# Altium integrated library Analog Devices Data Converters Digital-to-Analog Converters.IntLib: 2231 symbols (part 127 of 181)
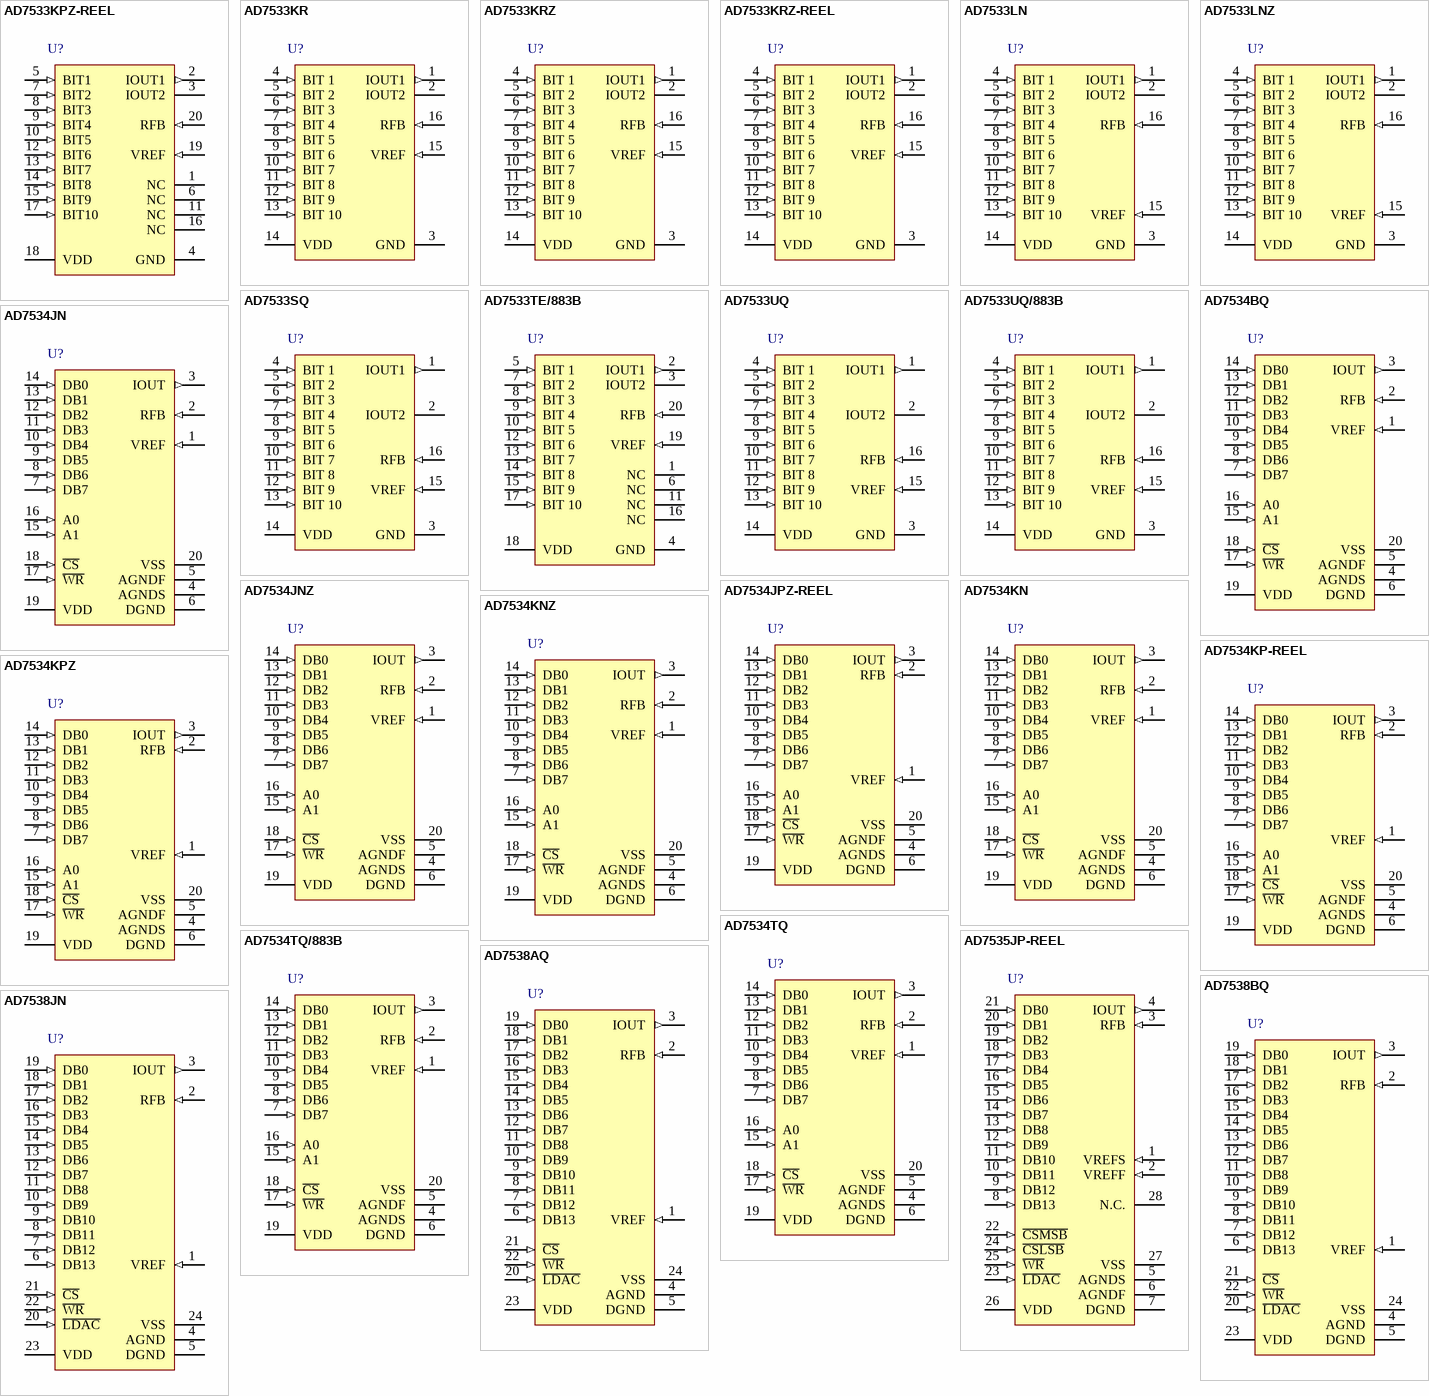
[diagram p240: symbols AD7533KPZ-REEL to AD7538JN]

## AD7534JPZ-REEL
designator U?
Single 14-Bit uP-Compatible Digital-to-Analog Converter, 0 to +70 degC, P-20A, Pb-Free, Reel; Generic Part Number: AD7534; Manufacturer: Analog Devices; PartNumber: AD7534JPZ-REEL; # DAC Outputs: 1; Max V+: 15.75V; Op Pwr Diss: 45mW; Resolution (Bits): 14; Settling Time: 1.5µs; Single Supply: No; DatasheetVersion: Rev.A; PackageVersion: Nov-2002; PackageReference: P-20A; PackageDescription: 20-Lead Plastic Leaded Chip Carrier [PLCC]; Supplier 1: Digi-Key; Supplier Part Number 1: AD7534JPZ-REEL-ND; Supplier 2: Mouser; Supplier Part Number 2: 584-AD7534JPZ-R; Packing: Reel; RoHS: Y; Mounting Technology: Surface Mount; Code_JEDEC: MO-047-AA; ComponentLink1Description: Manufacturer URL; ComponentLink1URL: http://www.analog.com/en/index.html; ComponentLink2Description: Datasheet; ComponentLink2URL: http://www.analog.com/static/imported-files/data_sheets/AD7534.pdf; ComponentLink3Description: Package Specification; ComponentLink3URL: http://www.analog.com/static/imported-files/packages/3121431516544404277643669223804694P20A.pdf; ComponentLink4Description: Product URL; ComponentLink4URL: http://www.analog.com/en/digital-to-analog-converters/da-converters/ad7534/products/product.html
footprint P-20A_N (Leaded Chip Carrier, 20-Leads, Body 9x9mm, Pitch 1.27mm, IPC Medium Density)
footprint P-20A_L (Leaded Chip Carrier, 20-Leads, Body 9x9mm, Pitch 1.27mm, IPC High Density)
footprint P-20A_M (Leaded Chip Carrier, 20-Leads, Body 9x9mm, Pitch 1.27mm, IPC Low Density)
pins: 1 VREF (in) "Reference Input Voltage.", 2 RFB (in) "Feedback resistor.Used to close the loop around an external op-amp.", 3 IOUT (out) "Current Output Terminal.", 4 AGNDS (power) "Analog ground sense line.Reference point for external circuitry.This pin should carry minimal current.", 5 AGNDF (power) "Analog ground force line;carries current from internal analog ground connections.AGNDF and AGNDS are tied together internally.", 6 DGND (power) "Digital Ground.", 7 DB7 (in) "Data Bit 7.", 8 DB6 (in) "Data Bit 6.", 9 DB5 (in) "Data Bit 5 or Data Bit 13 (DAC MSB).", 10 DB4 (in) "Data Bit 4 or Data Bit 12.", 11 DB3 (in) "Data Bit 3 or Data Bit 11.", 12 DB2 (in) "Data Bit 2 or Data Bit 10.", 13 DB1 (in) "Data Bit 1 or Data Bit 9.", 14 DB0 (in) "Data Bit 0 or Data Bit 8.", 15 A1 (in) "Address line 1.", 16 A0 (in) "Address line 0.", 17 ~{WR} (in) "Write input.Active low.", 18 ~{CS} (in) "Chip Select Input.Active low.", 19 VDD (power) "+ 12V to +15V supply input.", 20 VSS (power) "Bias pin for High Temperature Low Leakage configuration.To implement low leakage system,the pin should be at a negative voltage.See Figures 4,5 or 6 for recommended circuitry."

## AD7534KN
designator U?
Single 14-Bit uP-Compatible Digital-to-Analog Converter, 0 to +70 degC, N-20, Tube; Generic Part Number: AD7534; Manufacturer: Analog Devices; PartNumber: AD7534KN; # DAC Outputs: 1; Max V+: 15.75V; Op Pwr Diss: 45mW; Resolution (Bits): 14; Settling Time: 1.5µs; Single Supply: No; DatasheetVersion: Rev.A; PackageVersion: 070706-A; PackageReference: N-20; PackageDescription: 20-Lead Plastic Dual In-Line Package [PDIP] Narrow Body; Supplier 1: Digi-Key; Supplier Part Number 1: AD7534KN-ND; Supplier 2: Mouser; Supplier Part Number 2: 584-AD7534KN; Packing: Tube; RoHS: N; Mounting Technology: Through Hole; Code_JEDEC: MS-001; ComponentLink1Description: Manufacturer URL; ComponentLink1URL: http://www.analog.com/en/index.html; ComponentLink2Description: Datasheet; ComponentLink2URL: http://www.analog.com/static/imported-files/data_sheets/AD7534.pdf; ComponentLink3Description: Package Specification; ComponentLink3URL: http://www.analog.com/static/imported-files/packages/50601349676519N_20.pdf; ComponentLink4Description: Product URL; ComponentLink4URL: http://www.analog.com/en/digital-to-analog-converters/da-converters/ad7534/products/product.html
footprint N-20 (DIP, 20-Leads, Row Spacing 7.62mm, Pitch 2.54mm, Body 25.9x6.6mm)
pins: 1 VREF (in) "Reference Input Voltage", 2 RFB (in) "Feedback resistor. Used to close the loop around an external op-amp.", 3 IOUT (out) "Current Output Terminal", 4 AGNDS (power) "Analog ground sense line. Reference point for external circuitry. This pin should carry minimal current.", 5 AGNDF (power) "Analog ground force line; carries current from internal analog ground connections. AGNDF and AGNDS are tied together internally.", 6 DGND (power) "Digital Ground.", 7 DB7 (in) "Data Bit 7", 8 DB6 (in) "Data Bit 6", 9 DB5 (in) "Data Bit 5 or  Data Bit 13(DAC MSB)", 10 DB4 (in) "Data Bit 4 or  Data Bit 12", 11 DB3 (in) "Data Bit 3 or  Data Bit 11", 12 DB2 (in) "Data Bit 2 or  Data Bit 10", 13 DB1 (in) "Data Bit 1 or  Data Bit 9", 14 DB0 (in) "Data Bit 0 or  Data Bit 8", 15 A1 (in) "Address line 1", 16 A0 (in) "Address line 0", 17 ~{WR} (in) "Write input. Active low.", 18 ~{CS} (in) "Chip Select Input. Active low.", 19 VDD (power) "+12 V to +15 V supply input.", 20 VSS (power) "Bias pin for High Temperature Low Leakage configuration. To implement low leakage system, the pin should be at a negative voltage. See Figures 4,5 or 6 for recommended circuitry."

## AD7534KNZ
designator U?
Single 14-Bit uP-Compatible Digital-to-Analog Converter, 0 to +70 degC, N-20, Pb-Free, Tube; Generic Part Number: AD7534; Manufacturer: Analog Devices; PartNumber: AD7534KNZ; # DAC Outputs: 1; Max V+: 15.75V; Op Pwr Diss: 45mW; Resolution (Bits): 14; Settling Time: 1.5µs; Single Supply: No; DatasheetVersion: Rev.A; PackageVersion: 070706-A; PackageReference: N-20; PackageDescription: 20-Lead Plastic Dual In-Line Package [PDIP] Narrow Body; Supplier 1: Digi-Key; Supplier Part Number 1: AD7534KNZ-ND; Supplier 2: Newark; Supplier Part Number 2: 59K4984; Supplier 3: Mouser; Supplier Part Number 3: 584-AD7534KNZ; Packing: Tube; RoHS: Y; Mounting Technology: Through Hole; Code_JEDEC: MS-001; ComponentLink1Description: Manufacturer URL; ComponentLink1URL: http://www.analog.com/en/index.html; ComponentLink2Description: Datasheet; ComponentLink2URL: http://www.analog.com/static/imported-files/data_sheets/AD7534.pdf; ComponentLink3Description: Package Specification; ComponentLink3URL: http://www.analog.com/static/imported-files/packages/50601349676519N_20.pdf; ComponentLink4Description: Product URL; ComponentLink4URL: http://www.analog.com/en/digital-to-analog-converters/da-converters/ad7534/products/product.html
footprint N-20 (DIP, 20-Leads, Row Spacing 7.62mm, Pitch 2.54mm, Body 25.9x6.6mm)
pins: 1 VREF (in) "Reference Input Voltage", 2 RFB (in) "Feedback resistor. Used to close the loop around an external op-amp.", 3 IOUT (out) "Current Output Terminal", 4 AGNDS (power) "Analog ground sense line. Reference point for external circuitry. This pin should carry minimal current.", 5 AGNDF (power) "Analog ground force line; carries current from internal analog ground connections. AGNDF and AGNDS are tied together internally.", 6 DGND (power) "Digital Ground.", 7 DB7 (in) "Data Bit 7", 8 DB6 (in) "Data Bit 6", 9 DB5 (in) "Data Bit 5 or  Data Bit 13(DAC MSB)", 10 DB4 (in) "Data Bit 4 or  Data Bit 12", 11 DB3 (in) "Data Bit 3 or  Data Bit 11", 12 DB2 (in) "Data Bit 2 or  Data Bit 10", 13 DB1 (in) "Data Bit 1 or  Data Bit 9", 14 DB0 (in) "Data Bit 0 or  Data Bit 8", 15 A1 (in) "Address line 1", 16 A0 (in) "Address line 0", 17 ~{WR} (in) "Write input. Active low.", 18 ~{CS} (in) "Chip Select Input. Active low.", 19 VDD (power) "+12 V to +15 V supply input.", 20 VSS (power) "Bias pin for High Temperature Low Leakage configuration. To implement low leakage system, the pin should be at a negative voltage. See Figures 4,5 or 6 for recommended circuitry."

## AD7534KP-REEL
designator U?
Single 14-Bit uP-Compatible Digital-to-Analog Converter, 0 to +70 degC, P-20A, Reel; Generic Part Number: AD7534; Manufacturer: Analog Devices; PartNumber: AD7534KP-REEL; # DAC Outputs: 1; Max V+: 15.75V; Op Pwr Diss: 45mW; Resolution (Bits): 14; Settling Time: 1.5µs; Single Supply: No; DatasheetVersion: Rev.A; PackageVersion: Nov-2002; PackageReference: P-20A; PackageDescription: 20-Lead Plastic Leaded Chip Carrier [PLCC]; Supplier 1: Digi-Key; Supplier Part Number 1: AD7534KP-REELTR-ND; Supplier 2: Digi-Key; Supplier Part Number 2: AD7534KP-REELCT-ND; Supplier 3: Digi-Key; Supplier Part Number 3: AD7534KP-REELDKR-ND; Supplier 4: Mouser; Supplier Part Number 4: 584-AD7534KP-R; Packing: Reel; RoHS: N; Mounting Technology: Surface Mount; Code_JEDEC: MO-047-AA; ComponentLink1Description: Manufacturer URL; ComponentLink1URL: http://www.analog.com/en/index.html; ComponentLink2Description: Datasheet; ComponentLink2URL: http://www.analog.com/static/imported-files/data_sheets/AD7534.pdf; ComponentLink3Description: Package Specification; ComponentLink3URL: http://www.analog.com/static/imported-files/packages/3121431516544404277643669223804694P20A.pdf; ComponentLink4Description: Product URL; ComponentLink4URL: http://www.analog.com/en/digital-to-analog-converters/da-converters/ad7534/products/product.html
footprint P-20A_N (Leaded Chip Carrier, 20-Leads, Body 9x9mm, Pitch 1.27mm, IPC Medium Density)
footprint P-20A_L (Leaded Chip Carrier, 20-Leads, Body 9x9mm, Pitch 1.27mm, IPC High Density)
footprint P-20A_M (Leaded Chip Carrier, 20-Leads, Body 9x9mm, Pitch 1.27mm, IPC Low Density)
pins: 1 VREF (in) "Reference Input Voltage.", 2 RFB (in) "Feedback resistor.Used to close the loop around an external op-amp.", 3 IOUT (out) "Current Output Terminal.", 4 AGNDS (power) "Analog ground sense line.Reference point for external circuitry.This pin should carry minimal current.", 5 AGNDF (power) "Analog ground force line;carries current from internal analog ground connections.AGNDF and AGNDS are tied together internally.", 6 DGND (power) "Digital Ground.", 7 DB7 (in) "Data Bit 7.", 8 DB6 (in) "Data Bit 6.", 9 DB5 (in) "Data Bit 5 or Data Bit 13 (DAC MSB).", 10 DB4 (in) "Data Bit 4 or Data Bit 12.", 11 DB3 (in) "Data Bit 3 or Data Bit 11.", 12 DB2 (in) "Data Bit 2 or Data Bit 10.", 13 DB1 (in) "Data Bit 1 or Data Bit 9.", 14 DB0 (in) "Data Bit 0 or Data Bit 8.", 15 A1 (in) "Address line 1.", 16 A0 (in) "Address line 0.", 17 ~{WR} (in) "Write input.Active low.", 18 ~{CS} (in) "Chip Select Input.Active low.", 19 VDD (power) "+ 12V to +15V supply input.", 20 VSS (power) "Bias pin for High Temperature Low Leakage configuration.To implement low leakage system,the pin should be at a negative voltage.See Figures 4,5 or 6 for recommended circuitry."

## AD7534KPZ
designator U?
Single 14-Bit uP-Compatible Digital-to-Analog Converter, 0 to +70 degC, P-20A, Pb-Free, Tube; Generic Part Number: AD7534; Manufacturer: Analog Devices; PartNumber: AD7534KPZ; # DAC Outputs: 1; Max V+: 15.75V; Op Pwr Diss: 45mW; Resolution (Bits): 14; Settling Time: 1.5µs; Single Supply: No; DatasheetVersion: Rev.A; PackageVersion: Nov-2002; PackageReference: P-20A; PackageDescription: 20-Lead Plastic Leaded Chip Carrier [PLCC]; Supplier 1: Digi-Key; Supplier Part Number 1: AD7534KPZ-ND; Supplier 2: Mouser; Supplier Part Number 2: 584-AD7534KPZ; Packing: Tube; RoHS: Y; Mounting Technology: Surface Mount; Code_JEDEC: MO-047-AA; ComponentLink1Description: Manufacturer URL; ComponentLink1URL: http://www.analog.com/en/index.html; ComponentLink2Description: Datasheet; ComponentLink2URL: http://www.analog.com/static/imported-files/data_sheets/AD7534.pdf; ComponentLink3Description: Package Specification; ComponentLink3URL: http://www.analog.com/static/imported-files/packages/3121431516544404277643669223804694P20A.pdf; ComponentLink4Description: Product URL; ComponentLink4URL: http://www.analog.com/en/digital-to-analog-converters/da-converters/ad7534/products/product.html
footprint P-20A_N (Leaded Chip Carrier, 20-Leads, Body 9x9mm, Pitch 1.27mm, IPC Medium Density)
footprint P-20A_L (Leaded Chip Carrier, 20-Leads, Body 9x9mm, Pitch 1.27mm, IPC High Density)
footprint P-20A_M (Leaded Chip Carrier, 20-Leads, Body 9x9mm, Pitch 1.27mm, IPC Low Density)
pins: 1 VREF (in) "Reference Input Voltage.", 2 RFB (in) "Feedback resistor.Used to close the loop around an external op-amp.", 3 IOUT (out) "Current Output Terminal.", 4 AGNDS (power) "Analog ground sense line.Reference point for external circuitry.This pin should carry minimal current.", 5 AGNDF (power) "Analog ground force line;carries current from internal analog ground connections.AGNDF and AGNDS are tied together internally.", 6 DGND (power) "Digital Ground.", 7 DB7 (in) "Data Bit 7.", 8 DB6 (in) "Data Bit 6.", 9 DB5 (in) "Data Bit 5 or Data Bit 13 (DAC MSB).", 10 DB4 (in) "Data Bit 4 or Data Bit 12.", 11 DB3 (in) "Data Bit 3 or Data Bit 11.", 12 DB2 (in) "Data Bit 2 or Data Bit 10.", 13 DB1 (in) "Data Bit 1 or Data Bit 9.", 14 DB0 (in) "Data Bit 0 or Data Bit 8.", 15 A1 (in) "Address line 1.", 16 A0 (in) "Address line 0.", 17 ~{WR} (in) "Write input.Active low.", 18 ~{CS} (in) "Chip Select Input.Active low.", 19 VDD (power) "+ 12V to +15V supply input.", 20 VSS (power) "Bias pin for High Temperature Low Leakage configuration.To implement low leakage system,the pin should be at a negative voltage.See Figures 4,5 or 6 for recommended circuitry."

## AD7534TQ
designator U?
Single 14-Bit uP-Compatible Digital-to-Analog Converter, -55 to +125 degC, Q-20, Tube; Generic Part Number: AD7534; Manufacturer: Analog Devices; PartNumber: AD7534TQ; # DAC Outputs: 1; Max V+: 15.75V; Op Pwr Diss: 45mW; Resolution (Bits): 14; Settling Time: 1.5µs; Single Supply: No; DatasheetVersion: Rev.A; PackageVersion: Dec-2004; PackageReference: Q-20; PackageDescription: 20-Lead Ceramic Dual In-Line Package [CERDIP]; Supplier 1: Digi-Key; Supplier Part Number 1: AD7534TQ-ND; Supplier 2: Mouser; Supplier Part Number 2: 584-AD7534TQ; Packing: Tube; RoHS: N; Mounting Technology: Through Hole; ComponentLink1Description: Manufacturer URL; ComponentLink1URL: http://www.analog.com/en/index.html; ComponentLink2Description: Datasheet; ComponentLink2URL: http://www.analog.com/static/imported-files/data_sheets/AD7534.pdf; ComponentLink3Description: Package Specification; ComponentLink3URL: http://www.analog.com/static/imported-files/packages/50516416473314Q_20.pdf; ComponentLink4Description: Product URL; ComponentLink4URL: http://www.analog.com/en/digital-to-analog-converters/da-converters/ad7534/products/product.html
footprint Q-20 (DIP, 20-Leads, Row Spacing 7.62mm, Pitch 2.54mm, Body 25.9x6.7mm)
pins: 1 VREF (in) "Reference Input Voltage.", 2 RFB (in) "Feedback resistor.Used to close the loop around an external op-amp.", 3 IOUT (out) "Current Output Terminal.", 4 AGNDS (power) "Analog ground sense line;Reference point for external circuitry.This pin should  carry minimal current.", 5 AGNDF (power) "Analog ground force line;carries current from internal analog ground connections.AGNDF and AGNDS are tied together internally.", 6 DGND (power) "Digital Ground.", 7 DB7 (in) "Data Bit 7.", 8 DB6 (in) "Data Bit 6.", 9 DB5 (in) "Data Bit 5 or Data Bit 13 (DAC MSB).", 10 DB4 (in) "Data Bit 4 or Data Bit 12.", 11 DB3 (in) "Data Bit 3 or Data Bit 11.", 12 DB2 (in) "Data Bit 2 or Data Bit 10.", 13 DB1 (in) "Data Bit 1 or Data Bit 9.", 14 DB0 (in) "Data Bit 0 or Data Bit 8.", 15 A1 (in) "Address line 1.", 16 A0 (in) "Address line 0.", 17 ~{WR} (in) "Write input.Active low.", 18 ~{CS} (in) "Chip Select Input.Active low.", 19 VDD (power) "+12 Vto +15 V supply input.", 20 VSS (power) "Bias pin for High Temperature Low Leakage configuration.To implement low leakage system,the pin should be at a negative voltage.See Figures4,5 or 6 for recommended circuitry."

## AD7534TQ/883B
designator U?
Single 14-Bit uP-Compatible Digital-to-Analog Converter, -55 to +125 degC, Q-20, Tube; Generic Part Number: AD7534; Manufacturer: Analog Devices; PartNumber: AD7534TQ/883B; # DAC Outputs: 1; Max V+: 15.75V; Op Pwr Diss: 45mW; Resolution (Bits): 14; Settling Time: 1.5µs; Single Supply: No; DatasheetVersion: Rev.A; PackageVersion: Dec-2004; PackageReference: Q-20; PackageDescription: 20-Lead Ceramic Dual In-Line Package [CERDIP]; Supplier 1: Mouser; Supplier Part Number 1: 584-AD7534TQ883B; Packing: Tube; RoHS: N; Mounting Technology: Through Hole; ComponentLink1Description: Manufacturer URL; ComponentLink1URL: http://www.analog.com/en/index.html; ComponentLink2Description: Datasheet; ComponentLink2URL: http://www.analog.com/static/imported-files/data_sheets/AD7534.pdf; ComponentLink3Description: Package Specification; ComponentLink3URL: http://www.analog.com/static/imported-files/packages/50516416473314Q_20.pdf; ComponentLink4Description: Product URL; ComponentLink4URL: http://www.analog.com/en/digital-to-analog-converters/da-converters/ad7534/products/product.html
footprint Q-20 (DIP, 20-Leads, Row Spacing 7.62mm, Pitch 2.54mm, Body 25.9x6.7mm)
pins: 1 VREF (in) "Reference Input Voltage.", 2 RFB (in) "Feedback resistor.Used to close the loop around an external op-amp.", 3 IOUT (out) "Current Output Terminal.", 4 AGNDS (power) "Analog ground sense line;Reference point for external circuitry.This pin should  carry minimal current.", 5 AGNDF (power) "Analog ground force line;carries current from internal analog ground connections.AGNDF and AGNDS are tied together internally.", 6 DGND (power) "Digital Ground.", 7 DB7 (in) "Data Bit 7.", 8 DB6 (in) "Data Bit 6.", 9 DB5 (in) "Data Bit 5 or Data Bit 13 (DAC MSB).", 10 DB4 (in) "Data Bit 4 or Data Bit 12.", 11 DB3 (in) "Data Bit 3 or Data Bit 11.", 12 DB2 (in) "Data Bit 2 or Data Bit 10.", 13 DB1 (in) "Data Bit 1 or Data Bit 9.", 14 DB0 (in) "Data Bit 0 or Data Bit 8.", 15 A1 (in) "Address line 1.", 16 A0 (in) "Address line 0.", 17 ~{WR} (in) "Write input.Active low.", 18 ~{CS} (in) "Chip Select Input.Active low.", 19 VDD (power) "+12 Vto +15 V supply input.", 20 VSS (power) "Bias pin for High Temperature Low Leakage configuration.To implement low leakage system,the pin should be at a negative voltage.See Figures4,5 or 6 for recommended circuitry."

## AD7535JP-REEL
designator U?
Single 14-Bit uP-Compatible Digital-to-Analog Converter, 0 to +70 degC, P-28, Reel; Generic Part Number: AD7535; Manufacturer: Analog Devices; PartNumber: AD7535JP-REEL; # DAC Outputs: 1; Max V+: 15.75V; Op Pwr Diss: 60mW; Resolution (Bits): 14; Settling Time: 1.5µs; Single Supply: No; DatasheetVersion: Rev.A; PackageVersion: 042508-A; PackageReference: P-28; PackageDescription: 28-Lead Plastic Leaded Chip Carrier [PLCC]; Supplier 1: Mouser; Supplier Part Number 1: N/A; Packing: Reel; RoHS: N; Mounting Technology: Surface Mount; Code_JEDEC: MO-047-AB; ComponentLink1Description: Manufacturer URL; ComponentLink1URL: http://www.analog.com/en/index.html; ComponentLink2Description: Datasheet; ComponentLink2URL: http://www.analog.com/static/imported-files/data_sheets/AD7535.pdf; ComponentLink3Description: Package Specification; ComponentLink3URL: http://www.analog.com/static/imported-files/packages/PKG_PDF/PLCC(P)/P_28.pdf; ComponentLink4Description: Product URL; ComponentLink4URL: http://www.analog.com/en/digital-to-analog-converters/da-converters/ad7535/products/product.html
footprint P-28_N (Leaded Chip Carrier, 28-Leads, Body 11.5x11.5mm, Pitch 1.27mm, IPC Medium Density)
footprint P-28_L (Leaded Chip Carrier, 28-Leads, Body 11.5x11.5mm, Pitch 1.27mm, IPC High Density)
footprint P-28_M (Leaded Chip Carrier, 28-Leads, Body 11.5x11.5mm, Pitch 1.27mm, IPC Low Density)
pins: 1 VREFS (in) "Voltage Reference sense pin.", 2 VREFF (in) "Voltage Reference force pin.If a remote Voltage reference is being used VREFF and VREFS can be used in a Kelvin configuration to compensate for IR drop along the VREF line.See Figure 7.", 3 RFB (in) "Feedback resistor.Used to close the loop around an external op-amp.", 4 IOUT (out) "Current Output Terminal.", 5 AGNDS (power) "Analog ground sense line.Reference point for external circuitry.This pin should carry minimal current.", 6 AGNDF (power) "Analog ground force line;carries current from internal analog ground connections.AGNDF and AGNDS are tied together internally.", 7 DGND (power) "Digital Ground.", 8 DB13 (in) "Data Bit 13.DAC MSB.", 9 DB12 (in) "Data Bit 12.", 10 DB11 (in) "Data Bit 11.", 11 DB10 (in) "Data Bit 10.", 12 DB9 (in) "Data Bit 9.", 13 DB8 (in) "Data Bit 8.", 14 DB7 (in) "Data Bit 7.", 15 DB6 (in) "Data Bit 6.", 16 DB5 (in) "Data Bit 5.", 17 DB4 (in) "Data Bit 4.", 18 DB3 (in) "Data Bit 3.", 19 DB2 (in) "Data Bit 2.", 20 DB1 (in) "Data Bit 1.", 21 DB0 (in) "Data Bit 0.DAC LSB.", 22 ~{CSMSB} (in) "Chip Select Most Significant (MS) Byte.Active LOW input.", 23 ~{LDAC} (in) "Asynchronous Load DAC input.Active LOW.", 24 ~{CSLSB} (in) "Chip Select Least Significant (LS) Byte.Active LOW input.", 25 ~{WR} (in) "Write input.Active LOW.", 26 VDD (power) "+ 12V to + 15V supply input.", 27 VSS (power) "Bias pin for High Temperature Low Leakage configuration.To implement low leakage system,the pin should be at a negative voltage.See Figure 4,5,6 or 7 for recommended circuitry.", 28 N.C. "No connection."

## AD7538AQ
designator U?
Single 14-Bit LC2MOS Microprocessor-Compatible Digital-to-Analog Converter, -25 to +85 degC, Q-24-1, Tube; Generic Part Number: AD7538; Manufacturer: Analog Devices; PartNumber: AD7538AQ; # DAC Outputs: 1; Max V+: 15.75V; Op Pwr Diss: 60mW; Resolution (Bits): 14; Settling Time: 1.5µs; Single Supply: No; DatasheetVersion: Rev.B; PackageVersion: 100808-A; PackageReference: Q-24-1; PackageDescription: 24-Lead Ceramic Dual In-Line Package [CERDIP]; Supplier 1: Digi-Key; Supplier Part Number 1: AD7538AQ-ND; Supplier 2: Mouser; Supplier Part Number 2: 584-AD7538AQ; Packing: Tube; RoHS: N; Mounting Technology: Through Hole; ComponentLink1Description: Manufacturer URL; ComponentLink1URL: http://www.analog.com/en/index.html; ComponentLink2Description: Datasheet; ComponentLink2URL: http://www.analog.com/static/imported-files/data_sheets/AD7538.pdf; ComponentLink3Description: Package Specification; ComponentLink3URL: http://www.analog.com/static/imported-files/packages/PKG_PDF/CERDIP(Q)/Q_24_1.pdf; ComponentLink4Description: Product URL; ComponentLink4URL: http://www.analog.com/en/digital-to-analog-converters/da-converters/ad7538/products/product.html
footprint Q-24-1 (DIP, 24-Leads, Row Spacing 7.62mm, Pitch 2.54mm, Body 31.9x6.7mm)
pins: 1 VREF (in) "Voltage Reference.", 2 RFB (in) "Feedback Resistor. Used to close the loop around an external op amp.", 3 IOUT (out) "Current Output Terminal.", 4 AGND (power) "Analog Ground", 5 DGND (power) "Digital Ground.", 6 DB13 (in) "Data Input. Bit DB13 (MSB).", 7 DB12 (in) "Data Input.", 8 DB11 (in) "Data Input.", 9 DB10 (in) "Data Input.", 10 DB9 (in) "Data Input.", 11 DB8 (in) "Data Input.", 12 DB7 (in) "Data Input.", 13 DB6 (in) "Data Input.", 14 DB5 (in) "Data Input.", 15 DB4 (in) "Data Input.", 16 DB3 (in) "Data Input.", 17 DB2 (in) "Data Input.", 18 DB1 (in) "Data Input.", 19 DB0 (in) "Data Input. Bit DB0 (LSB).", 20 ~{LDAC} (in) "Chip Select Input. Active low.", 21 ~{CS} (in) "Asynchronous Load DAC Input. Active low.", 22 ~{WR} (in) "Write Input. Active low.", 23 VDD (power) "+12 V to +15 V Supply Input.", 24 VSS (power) "Bias pin for high temperature low leakage configuration. To implement low leakage system, the pin should be at a negative voltage. See Figure 6 and Figure 8 for recommended circuitry."

## AD7538BQ
designator U?
Single 14-Bit LC2MOS Microprocessor-Compatible Digital-to-Analog Converter, -25 to +85 degC, Q-24-1, Tube; Generic Part Number: AD7538; Manufacturer: Analog Devices; PartNumber: AD7538BQ; # DAC Outputs: 1; Max V+: 15.75V; Op Pwr Diss: 60mW; Resolution (Bits): 14; Settling Time: 1.5µs; Single Supply: No; DatasheetVersion: Rev.B; PackageVersion: 100808-A; PackageReference: Q-24-1; PackageDescription: 24-Lead Ceramic Dual In-Line Package [CERDIP]; Supplier 1: Digi-Key; Supplier Part Number 1: AD7538BQ-ND; Supplier 2: Mouser; Supplier Part Number 2: 584-AD7538BQ; Packing: Tube; RoHS: N; Mounting Technology: Through Hole; ComponentLink1Description: Manufacturer URL; ComponentLink1URL: http://www.analog.com/en/index.html; ComponentLink2Description: Datasheet; ComponentLink2URL: http://www.analog.com/static/imported-files/data_sheets/AD7538.pdf; ComponentLink3Description: Package Specification; ComponentLink3URL: http://www.analog.com/static/imported-files/packages/PKG_PDF/CERDIP(Q)/Q_24_1.pdf; ComponentLink4Description: Product URL; ComponentLink4URL: http://www.analog.com/en/digital-to-analog-converters/da-converters/ad7538/products/product.html
footprint Q-24-1 (DIP, 24-Leads, Row Spacing 7.62mm, Pitch 2.54mm, Body 31.9x6.7mm)
pins: 1 VREF (in) "Voltage Reference.", 2 RFB (in) "Feedback Resistor. Used to close the loop around an external op amp.", 3 IOUT (out) "Current Output Terminal.", 4 AGND (power) "Analog Ground", 5 DGND (power) "Digital Ground.", 6 DB13 (in) "Data Input. Bit DB13 (MSB).", 7 DB12 (in) "Data Input.", 8 DB11 (in) "Data Input.", 9 DB10 (in) "Data Input.", 10 DB9 (in) "Data Input.", 11 DB8 (in) "Data Input.", 12 DB7 (in) "Data Input.", 13 DB6 (in) "Data Input.", 14 DB5 (in) "Data Input.", 15 DB4 (in) "Data Input.", 16 DB3 (in) "Data Input.", 17 DB2 (in) "Data Input.", 18 DB1 (in) "Data Input.", 19 DB0 (in) "Data Input. Bit DB0 (LSB).", 20 ~{LDAC} (in) "Chip Select Input. Active low.", 21 ~{CS} (in) "Asynchronous Load DAC Input. Active low.", 22 ~{WR} (in) "Write Input. Active low.", 23 VDD (power) "+12 V to +15 V Supply Input.", 24 VSS (power) "Bias pin for high temperature low leakage configuration. To implement low leakage system, the pin should be at a negative voltage. See Figure 6 and Figure 8 for recommended circuitry."

## AD7538JN
designator U?
Single 14-Bit LC2MOS Microprocessor-Compatible Digital-to-Analog Converter, 0 to +70 degC, N-24-1, Tube; Generic Part Number: AD7538; Manufacturer: Analog Devices; PartNumber: AD7538JN; # DAC Outputs: 1; Max V+: 15.75V; Op Pwr Diss: 60mW; Resolution (Bits): 14; Settling Time: 1.5µs; Single Supply: No; DatasheetVersion: Rev.B; PackageVersion: 071006-A; PackageReference: N-24-1; PackageDescription: 24-Lead Plastic Dual In-Line Package [PDIP] Narrow Body; Supplier 1: Digi-Key; Supplier Part Number 1: AD7538JN-ND; Supplier 2: Mouser; Supplier Part Number 2: 584-AD7538JN; Packing: Tube; RoHS: N; Mounting Technology: Through Hole; Code_JEDEC: MS-001; ComponentLink1Description: Manufacturer URL; ComponentLink1URL: http://www.analog.com/en/index.html; ComponentLink2Description: Datasheet; ComponentLink2URL: http://www.analog.com/static/imported-files/data_sheets/AD7538.pdf; ComponentLink3Description: Package Specification; ComponentLink3URL: http://www.analog.com/static/imported-files/packages/50726455539629N_24_1.pdf; ComponentLink4Description: Product URL; ComponentLink4URL: http://www.analog.com/en/digital-to-analog-converters/da-converters/ad7538/products/product.html
footprint N-24-1 (DIP, 24-Leads, Row Spacing 7.62mm, Pitch 2.54mm, Body 31.9x6.6mm)
pins: 1 VREF (in) "Voltage Reference.", 2 RFB (in) "Feedback Resistor. Used to close the loop around an external op amp.", 3 IOUT (out) "Current Output Terminal.", 4 AGND (power) "Analog Ground", 5 DGND (power) "Digital Ground.", 6 DB13 (in) "Data Input. Bit DB13 (MSB).", 7 DB12 (in) "Data Input.", 8 DB11 (in) "Data Input.", 9 DB10 (in) "Data Input.", 10 DB9 (in) "Data Input.", 11 DB8 (in) "Data Input.", 12 DB7 (in) "Data Input.", 13 DB6 (in) "Data Input.", 14 DB5 (in) "Data Input.", 15 DB4 (in) "Data Input.", 16 DB3 (in) "Data Input.", 17 DB2 (in) "Data Input.", 18 DB1 (in) "Data Input.", 19 DB0 (in) "Data Input. Bit DB0 (LSB).", 20 ~{LDAC} (in) "Chip Select Input. Active low.", 21 ~{CS} (in) "Asynchronous Load DAC Input. Active low.", 22 ~{WR} (in) "Write Input. Active low.", 23 VDD (power) "+12 V to +15 V Supply Input.", 24 VSS (power) "Bias pin for high temperature low leakage configuration. To implement low leakage system, the pin should be at a negative voltage. See Figure 6 and Figure 8 for recommended circuitry."

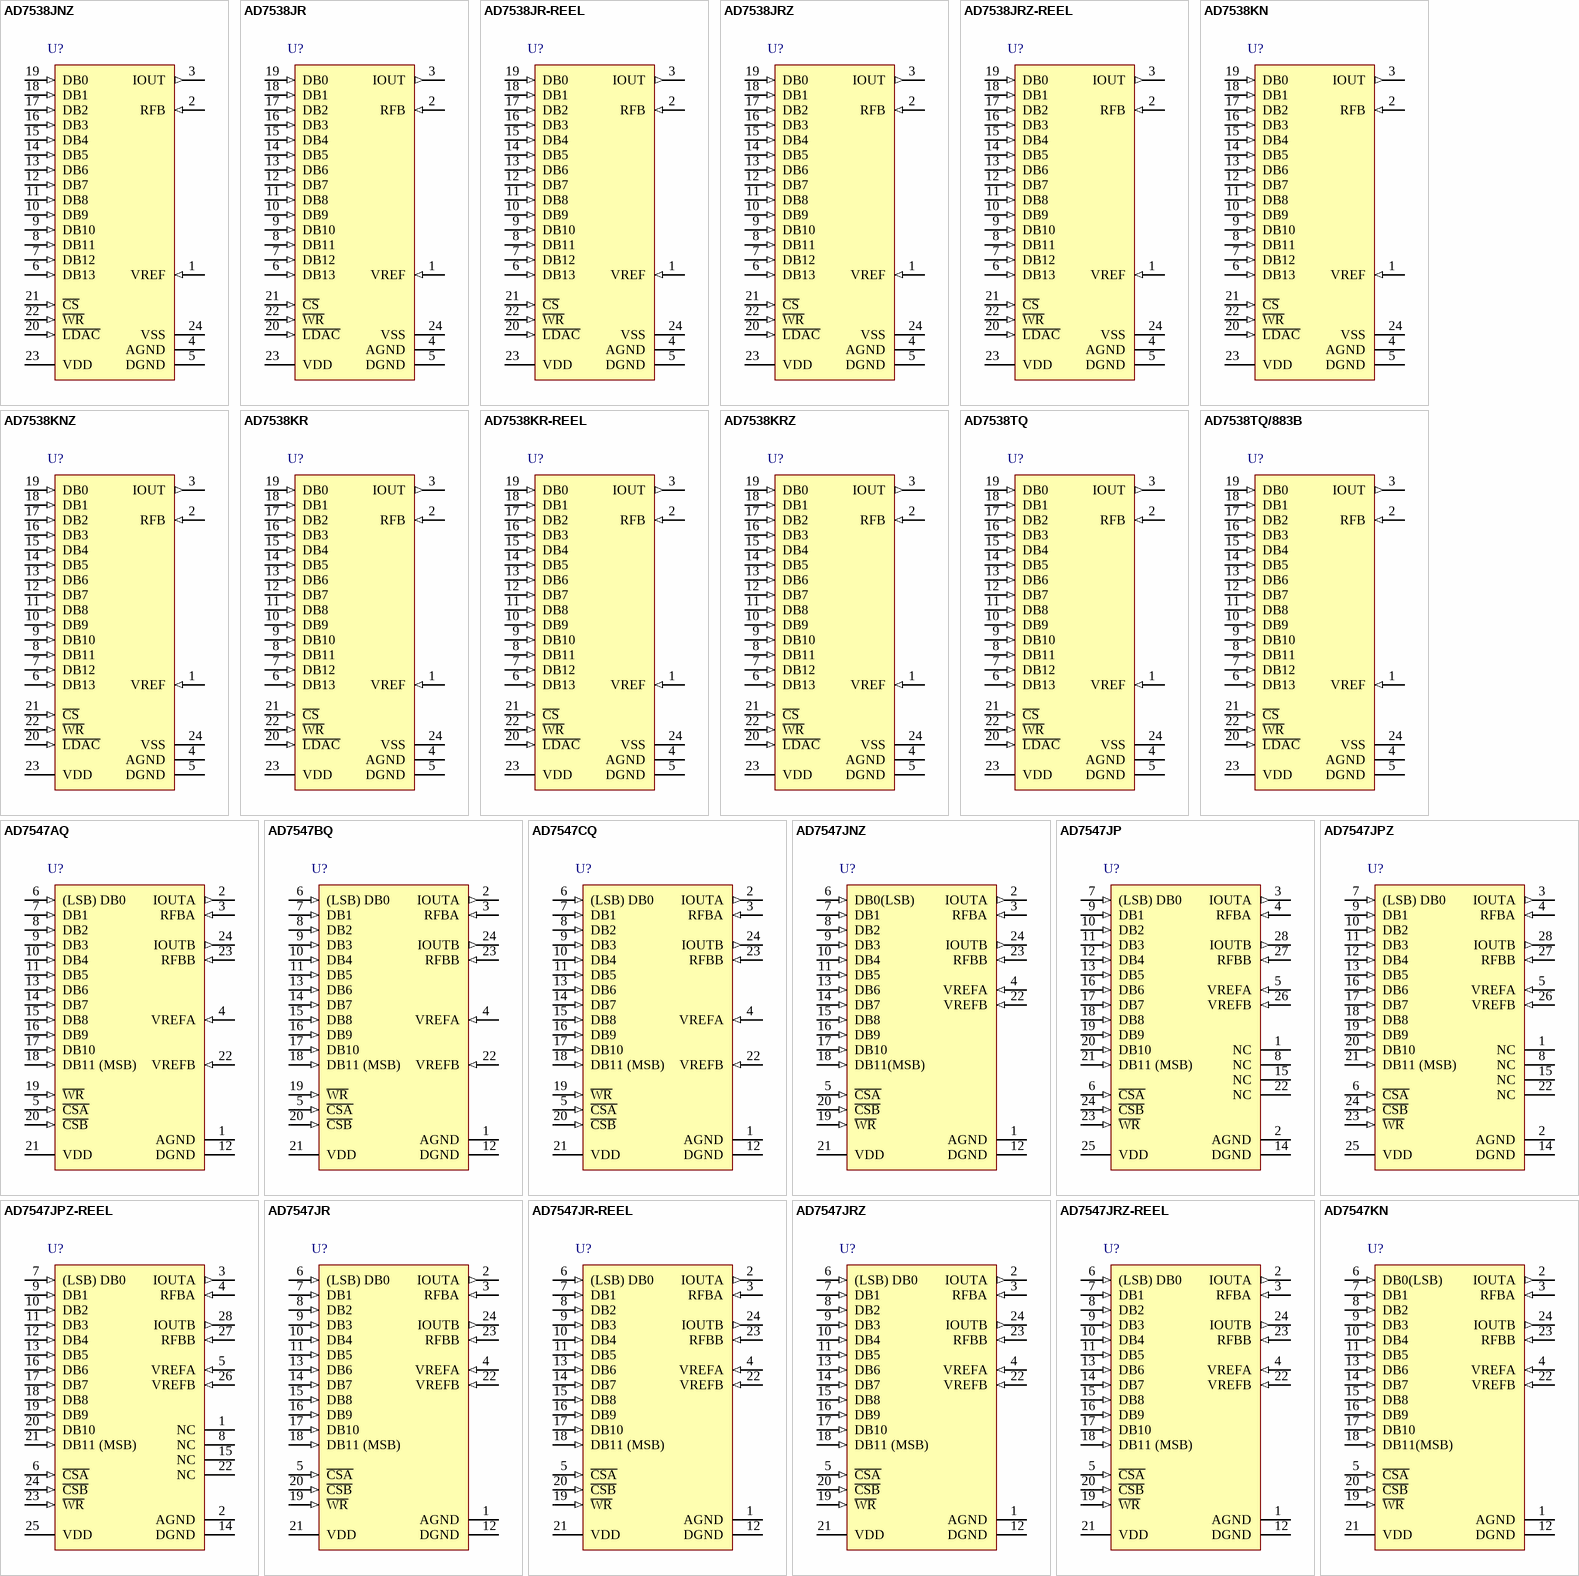
[diagram p69: symbols AD7538JNZ to AD7547KN]

## AD7538JNZ
designator U?
Single 14-Bit LC2MOS Microprocessor-Compatible Digital-to-Analog Converter, 0 to +70 degC, N-24-1, Pb-Free, Tube; Generic Part Number: AD7538; Manufacturer: Analog Devices; PartNumber: AD7538JNZ; # DAC Outputs: 1; Max V+: 15.75V; Op Pwr Diss: 60mW; Resolution (Bits): 14; Settling Time: 1.5µs; Single Supply: No; DatasheetVersion: Rev.B; PackageVersion: 071006-A; PackageReference: N-24-1; PackageDescription: 24-Lead Plastic Dual In-Line Package [PDIP] Narrow Body; Supplier 1: Digi-Key; Supplier Part Number 1: AD7538JNZ-ND; Supplier 2: Farnell; Supplier Part Number 2: 1079375; Supplier 3: Newark; Supplier Part Number 3: 59K4995; Supplier 4: Mouser; Supplier Part Number 4: 584-AD7538JNZ; Packing: Tube; RoHS: Y; Mounting Technology: Through Hole; Code_JEDEC: MS-001; ComponentLink1Description: Manufacturer URL; ComponentLink1URL: http://www.analog.com/en/index.html; ComponentLink2Description: Datasheet; ComponentLink2URL: http://www.analog.com/static/imported-files/data_sheets/AD7538.pdf; ComponentLink3Description: Package Specification; ComponentLink3URL: http://www.analog.com/static/imported-files/packages/50726455539629N_24_1.pdf; ComponentLink4Description: Product URL; ComponentLink4URL: http://www.analog.com/en/digital-to-analog-converters/da-converters/ad7538/products/product.html
footprint N-24-1 (DIP, 24-Leads, Row Spacing 7.62mm, Pitch 2.54mm, Body 31.9x6.6mm)
pins: 1 VREF (in) "Voltage Reference.", 2 RFB (in) "Feedback Resistor. Used to close the loop around an external op amp.", 3 IOUT (out) "Current Output Terminal.", 4 AGND (power) "Analog Ground", 5 DGND (power) "Digital Ground.", 6 DB13 (in) "Data Input. Bit DB13 (MSB).", 7 DB12 (in) "Data Input.", 8 DB11 (in) "Data Input.", 9 DB10 (in) "Data Input.", 10 DB9 (in) "Data Input.", 11 DB8 (in) "Data Input.", 12 DB7 (in) "Data Input.", 13 DB6 (in) "Data Input.", 14 DB5 (in) "Data Input.", 15 DB4 (in) "Data Input.", 16 DB3 (in) "Data Input.", 17 DB2 (in) "Data Input.", 18 DB1 (in) "Data Input.", 19 DB0 (in) "Data Input. Bit DB0 (LSB).", 20 ~{LDAC} (in) "Chip Select Input. Active low.", 21 ~{CS} (in) "Asynchronous Load DAC Input. Active low.", 22 ~{WR} (in) "Write Input. Active low.", 23 VDD (power) "+12 V to +15 V Supply Input.", 24 VSS (power) "Bias pin for high temperature low leakage configuration. To implement low leakage system, the pin should be at a negative voltage. See Figure 6 and Figure 8 for recommended circuitry."

## AD7538JR
designator U?
Single 14-Bit LC2MOS Microprocessor-Compatible Digital-to-Analog Converter, 0 to +70 degC, RW-24, Tube; Generic Part Number: AD7538; Manufacturer: Analog Devices; PartNumber: AD7538JR; # DAC Outputs: 1; Max V+: 15.75V; Op Pwr Diss: 60mW; Resolution (Bits): 14; Settling Time: 1.5µs; Single Supply: No; DatasheetVersion: Rev.B; PackageVersion: 060706-A; PackageReference: RW-24; PackageDescription: 24-Lead Standard Small Outline Package [SOIC_W]; Supplier 1: Digi-Key; Supplier Part Number 1: AD7538JR-ND; Supplier 2: Mouser; Supplier Part Number 2: 584-AD7538JR; Packing: Tube; RoHS: N; Mounting Technology: Surface Mount; Code_JEDEC: MS-013-AD; ComponentLink1Description: Manufacturer URL; ComponentLink1URL: http://www.analog.com/en/index.html; ComponentLink2Description: Datasheet; ComponentLink2URL: http://www.analog.com/static/imported-files/data_sheets/AD7538.pdf; ComponentLink3Description: Package Specification; ComponentLink3URL: http://www.analog.com/static/imported-files/packages/33665150946139RW_24.pdf; ComponentLink4Description: Product URL; ComponentLink4URL: http://www.analog.com/en/digital-to-analog-converters/da-converters/ad7538/products/product.html
footprint RW-24_N (SOIC, 24-Leads, Body 15.4x7.5mm, Pitch 1.27mm, IPC Medium Density)
footprint RW-24_L (SOIC, 24-Leads, Body 15.4x7.5mm, Pitch 1.27mm, IPC High Density)
footprint RW-24_M (SOIC, 24-Leads, Body 15.4x7.5mm, Pitch 1.27mm, IPC Low Density)
pins: 1 VREF (in) "Voltage Reference.", 2 RFB (in) "Feedback Resistor. Used to close the loop around an external op amp.", 3 IOUT (out) "Current Output Terminal.", 4 AGND (power) "Analog Ground", 5 DGND (power) "Digital Ground.", 6 DB13 (in) "Data Input. Bit DB13 (MSB).", 7 DB12 (in) "Data Input.", 8 DB11 (in) "Data Input.", 9 DB10 (in) "Data Input.", 10 DB9 (in) "Data Input.", 11 DB8 (in) "Data Input.", 12 DB7 (in) "Data Input.", 13 DB6 (in) "Data Input.", 14 DB5 (in) "Data Input.", 15 DB4 (in) "Data Input.", 16 DB3 (in) "Data Input.", 17 DB2 (in) "Data Input.", 18 DB1 (in) "Data Input.", 19 DB0 (in) "Data Input. Bit DB0 (LSB).", 20 ~{LDAC} (in) "Chip Select Input. Active low.", 21 ~{CS} (in) "Asynchronous Load DAC Input. Active low.", 22 ~{WR} (in) "Write Input. Active low.", 23 VDD (power) "+12 V to +15 V Supply Input.", 24 VSS (power) "Bias pin for high temperature low leakage configuration. To implement low leakage system, the pin should be at a negative voltage. See Figure 6 and Figure 8 for recommended circuitry."

## AD7538JR-REEL
designator U?
Single 14-Bit LC2MOS Microprocessor-Compatible Digital-to-Analog Converter, 0 to +70 degC, RW-24, Reel; Generic Part Number: AD7538; Manufacturer: Analog Devices; PartNumber: AD7538JR-REEL; # DAC Outputs: 1; Max V+: 15.75V; Op Pwr Diss: 60mW; Resolution (Bits): 14; Settling Time: 1.5µs; Single Supply: No; DatasheetVersion: Rev.B; PackageVersion: 060706-A; PackageReference: RW-24; PackageDescription: 24-Lead Standard Small Outline Package [SOIC_W]; Supplier 1: Mouser; Supplier Part Number 1: N/A; Packing: Reel; RoHS: N; Mounting Technology: Surface Mount; Code_JEDEC: MS-013-AD; ComponentLink1Description: Manufacturer URL; ComponentLink1URL: http://www.analog.com/en/index.html; ComponentLink2Description: Datasheet; ComponentLink2URL: http://www.analog.com/static/imported-files/data_sheets/AD7538.pdf; ComponentLink3Description: Package Specification; ComponentLink3URL: http://www.analog.com/static/imported-files/packages/33665150946139RW_24.pdf; ComponentLink4Description: Product URL; ComponentLink4URL: http://www.analog.com/en/digital-to-analog-converters/da-converters/ad7538/products/product.html
footprint RW-24_N (SOIC, 24-Leads, Body 15.4x7.5mm, Pitch 1.27mm, IPC Medium Density)
footprint RW-24_L (SOIC, 24-Leads, Body 15.4x7.5mm, Pitch 1.27mm, IPC High Density)
footprint RW-24_M (SOIC, 24-Leads, Body 15.4x7.5mm, Pitch 1.27mm, IPC Low Density)
pins: 1 VREF (in) "Voltage Reference.", 2 RFB (in) "Feedback Resistor. Used to close the loop around an external op amp.", 3 IOUT (out) "Current Output Terminal.", 4 AGND (power) "Analog Ground", 5 DGND (power) "Digital Ground.", 6 DB13 (in) "Data Input. Bit DB13 (MSB).", 7 DB12 (in) "Data Input.", 8 DB11 (in) "Data Input.", 9 DB10 (in) "Data Input.", 10 DB9 (in) "Data Input.", 11 DB8 (in) "Data Input.", 12 DB7 (in) "Data Input.", 13 DB6 (in) "Data Input.", 14 DB5 (in) "Data Input.", 15 DB4 (in) "Data Input.", 16 DB3 (in) "Data Input.", 17 DB2 (in) "Data Input.", 18 DB1 (in) "Data Input.", 19 DB0 (in) "Data Input. Bit DB0 (LSB).", 20 ~{LDAC} (in) "Chip Select Input. Active low.", 21 ~{CS} (in) "Asynchronous Load DAC Input. Active low.", 22 ~{WR} (in) "Write Input. Active low.", 23 VDD (power) "+12 V to +15 V Supply Input.", 24 VSS (power) "Bias pin for high temperature low leakage configuration. To implement low leakage system, the pin should be at a negative voltage. See Figure 6 and Figure 8 for recommended circuitry."

## AD7538JRZ
designator U?
Single 14-Bit LC2MOS Microprocessor-Compatible Digital-to-Analog Converter, 0 to +70 degC, RW-24, Pb-Free, Tube; Generic Part Number: AD7538; Manufacturer: Analog Devices; PartNumber: AD7538JRZ; # DAC Outputs: 1; Max V+: 15.75V; Op Pwr Diss: 60mW; Resolution (Bits): 14; Settling Time: 1.5µs; Single Supply: No; DatasheetVersion: Rev.B; PackageVersion: 060706-A; PackageReference: RW-24; PackageDescription: 24-Lead Standard Small Outline Package [SOIC_W]; Supplier 1: Digi-Key; Supplier Part Number 1: AD7538JRZ-ND; Supplier 2: Mouser; Supplier Part Number 2: 584-AD7538JRZ; Packing: Tube; RoHS: Y; Mounting Technology: Surface Mount; Code_JEDEC: MS-013-AD; ComponentLink1Description: Manufacturer URL; ComponentLink1URL: http://www.analog.com/en/index.html; ComponentLink2Description: Datasheet; ComponentLink2URL: http://www.analog.com/static/imported-files/data_sheets/AD7538.pdf; ComponentLink3Description: Package Specification; ComponentLink3URL: http://www.analog.com/static/imported-files/packages/33665150946139RW_24.pdf; ComponentLink4Description: Product URL; ComponentLink4URL: http://www.analog.com/en/digital-to-analog-converters/da-converters/ad7538/products/product.html
footprint RW-24_N (SOIC, 24-Leads, Body 15.4x7.5mm, Pitch 1.27mm, IPC Medium Density)
footprint RW-24_L (SOIC, 24-Leads, Body 15.4x7.5mm, Pitch 1.27mm, IPC High Density)
footprint RW-24_M (SOIC, 24-Leads, Body 15.4x7.5mm, Pitch 1.27mm, IPC Low Density)
pins: 1 VREF (in) "Voltage Reference.", 2 RFB (in) "Feedback Resistor. Used to close the loop around an external op amp.", 3 IOUT (out) "Current Output Terminal.", 4 AGND (power) "Analog Ground", 5 DGND (power) "Digital Ground.", 6 DB13 (in) "Data Input. Bit DB13 (MSB).", 7 DB12 (in) "Data Input.", 8 DB11 (in) "Data Input.", 9 DB10 (in) "Data Input.", 10 DB9 (in) "Data Input.", 11 DB8 (in) "Data Input.", 12 DB7 (in) "Data Input.", 13 DB6 (in) "Data Input.", 14 DB5 (in) "Data Input.", 15 DB4 (in) "Data Input.", 16 DB3 (in) "Data Input.", 17 DB2 (in) "Data Input.", 18 DB1 (in) "Data Input.", 19 DB0 (in) "Data Input. Bit DB0 (LSB).", 20 ~{LDAC} (in) "Chip Select Input. Active low.", 21 ~{CS} (in) "Asynchronous Load DAC Input. Active low.", 22 ~{WR} (in) "Write Input. Active low.", 23 VDD (power) "+12 V to +15 V Supply Input.", 24 VSS (power) "Bias pin for high temperature low leakage configuration. To implement low leakage system, the pin should be at a negative voltage. See Figure 6 and Figure 8 for recommended circuitry."

## AD7538JRZ-REEL
designator U?
Single 14-Bit LC2MOS Microprocessor-Compatible Digital-to-Analog Converter, 0 to +70 degC, RW-24, Pb-Free, Reel; Generic Part Number: AD7538; Manufacturer: Analog Devices; PartNumber: AD7538JRZ-REEL; # DAC Outputs: 1; Max V+: 15.75V; Op Pwr Diss: 60mW; Resolution (Bits): 14; Settling Time: 1.5µs; Single Supply: No; DatasheetVersion: Rev.B; PackageVersion: 060706-A; PackageReference: RW-24; PackageDescription: 24-Lead Standard Small Outline Package [SOIC_W]; Supplier 1: Digi-Key; Supplier Part Number 1: AD7538JRZ-REEL-ND; Supplier 2: Mouser; Supplier Part Number 2: 584-AD7538JRZ-R; Packing: Reel; RoHS: Y; Mounting Technology: Surface Mount; Code_JEDEC: MS-013-AD; ComponentLink1Description: Manufacturer URL; ComponentLink1URL: http://www.analog.com/en/index.html; ComponentLink2Description: Datasheet; ComponentLink2URL: http://www.analog.com/static/imported-files/data_sheets/AD7538.pdf; ComponentLink3Description: Package Specification; ComponentLink3URL: http://www.analog.com/static/imported-files/packages/33665150946139RW_24.pdf; ComponentLink4Description: Product URL; ComponentLink4URL: http://www.analog.com/en/digital-to-analog-converters/da-converters/ad7538/products/product.html
footprint RW-24_N (SOIC, 24-Leads, Body 15.4x7.5mm, Pitch 1.27mm, IPC Medium Density)
footprint RW-24_L (SOIC, 24-Leads, Body 15.4x7.5mm, Pitch 1.27mm, IPC High Density)
footprint RW-24_M (SOIC, 24-Leads, Body 15.4x7.5mm, Pitch 1.27mm, IPC Low Density)
pins: 1 VREF (in) "Voltage Reference.", 2 RFB (in) "Feedback Resistor. Used to close the loop around an external op amp.", 3 IOUT (out) "Current Output Terminal.", 4 AGND (power) "Analog Ground", 5 DGND (power) "Digital Ground.", 6 DB13 (in) "Data Input. Bit DB13 (MSB).", 7 DB12 (in) "Data Input.", 8 DB11 (in) "Data Input.", 9 DB10 (in) "Data Input.", 10 DB9 (in) "Data Input.", 11 DB8 (in) "Data Input.", 12 DB7 (in) "Data Input.", 13 DB6 (in) "Data Input.", 14 DB5 (in) "Data Input.", 15 DB4 (in) "Data Input.", 16 DB3 (in) "Data Input.", 17 DB2 (in) "Data Input.", 18 DB1 (in) "Data Input.", 19 DB0 (in) "Data Input. Bit DB0 (LSB).", 20 ~{LDAC} (in) "Chip Select Input. Active low.", 21 ~{CS} (in) "Asynchronous Load DAC Input. Active low.", 22 ~{WR} (in) "Write Input. Active low.", 23 VDD (power) "+12 V to +15 V Supply Input.", 24 VSS (power) "Bias pin for high temperature low leakage configuration. To implement low leakage system, the pin should be at a negative voltage. See Figure 6 and Figure 8 for recommended circuitry."

## AD7538KN
designator U?
Single 14-Bit LC2MOS Microprocessor-Compatible Digital-to-Analog Converter, 0 to +70 degC, N-24-1, Tube; Generic Part Number: AD7538; Manufacturer: Analog Devices; PartNumber: AD7538KN; # DAC Outputs: 1; Max V+: 15.75V; Op Pwr Diss: 60mW; Resolution (Bits): 14; Settling Time: 1.5µs; Single Supply: No; DatasheetVersion: Rev.B; PackageVersion: 071006-A; PackageReference: N-24-1; PackageDescription: 24-Lead Plastic Dual In-Line Package [PDIP] Narrow Body; Supplier 1: Digi-Key; Supplier Part Number 1: AD7538KN-ND; Supplier 2: Mouser; Supplier Part Number 2: 584-AD7538KN; Packing: Tube; RoHS: N; Mounting Technology: Through Hole; Code_JEDEC: MS-001; ComponentLink1Description: Manufacturer URL; ComponentLink1URL: http://www.analog.com/en/index.html; ComponentLink2Description: Datasheet; ComponentLink2URL: http://www.analog.com/static/imported-files/data_sheets/AD7538.pdf; ComponentLink3Description: Package Specification; ComponentLink3URL: http://www.analog.com/static/imported-files/packages/50726455539629N_24_1.pdf; ComponentLink4Description: Product URL; ComponentLink4URL: http://www.analog.com/en/digital-to-analog-converters/da-converters/ad7538/products/product.html
footprint N-24-1 (DIP, 24-Leads, Row Spacing 7.62mm, Pitch 2.54mm, Body 31.9x6.6mm)
pins: 1 VREF (in) "Voltage Reference.", 2 RFB (in) "Feedback Resistor. Used to close the loop around an external op amp.", 3 IOUT (out) "Current Output Terminal.", 4 AGND (power) "Analog Ground", 5 DGND (power) "Digital Ground.", 6 DB13 (in) "Data Input. Bit DB13 (MSB).", 7 DB12 (in) "Data Input.", 8 DB11 (in) "Data Input.", 9 DB10 (in) "Data Input.", 10 DB9 (in) "Data Input.", 11 DB8 (in) "Data Input.", 12 DB7 (in) "Data Input.", 13 DB6 (in) "Data Input.", 14 DB5 (in) "Data Input.", 15 DB4 (in) "Data Input.", 16 DB3 (in) "Data Input.", 17 DB2 (in) "Data Input.", 18 DB1 (in) "Data Input.", 19 DB0 (in) "Data Input. Bit DB0 (LSB).", 20 ~{LDAC} (in) "Chip Select Input. Active low.", 21 ~{CS} (in) "Asynchronous Load DAC Input. Active low.", 22 ~{WR} (in) "Write Input. Active low.", 23 VDD (power) "+12 V to +15 V Supply Input.", 24 VSS (power) "Bias pin for high temperature low leakage configuration. To implement low leakage system, the pin should be at a negative voltage. See Figure 6 and Figure 8 for recommended circuitry."

## AD7538KNZ
designator U?
Single 14-Bit LC2MOS Microprocessor-Compatible Digital-to-Analog Converter, 0 to +70 degC, N-24-1, Pb-Free, Tube; Generic Part Number: AD7538; Manufacturer: Analog Devices; PartNumber: AD7538KNZ; # DAC Outputs: 1; Max V+: 15.75V; Op Pwr Diss: 60mW; Resolution (Bits): 14; Settling Time: 1.5µs; Single Supply: No; DatasheetVersion: Rev.B; PackageVersion: 071006-A; PackageReference: N-24-1; PackageDescription: 24-Lead Plastic Dual In-Line Package [PDIP] Narrow Body; Supplier 1: Digi-Key; Supplier Part Number 1: AD7538KNZ-ND; Supplier 2: Mouser; Supplier Part Number 2: 584-AD7538KNZ; Packing: Tube; RoHS: Y; Mounting Technology: Through Hole; Code_JEDEC: MS-001; ComponentLink1Description: Manufacturer URL; ComponentLink1URL: http://www.analog.com/en/index.html; ComponentLink2Description: Datasheet; ComponentLink2URL: http://www.analog.com/static/imported-files/data_sheets/AD7538.pdf; ComponentLink3Description: Package Specification; ComponentLink3URL: http://www.analog.com/static/imported-files/packages/50726455539629N_24_1.pdf; ComponentLink4Description: Product URL; ComponentLink4URL: http://www.analog.com/en/digital-to-analog-converters/da-converters/ad7538/products/product.html
footprint N-24-1 (DIP, 24-Leads, Row Spacing 7.62mm, Pitch 2.54mm, Body 31.9x6.6mm)
pins: 1 VREF (in) "Voltage Reference.", 2 RFB (in) "Feedback Resistor. Used to close the loop around an external op amp.", 3 IOUT (out) "Current Output Terminal.", 4 AGND (power) "Analog Ground", 5 DGND (power) "Digital Ground.", 6 DB13 (in) "Data Input. Bit DB13 (MSB).", 7 DB12 (in) "Data Input.", 8 DB11 (in) "Data Input.", 9 DB10 (in) "Data Input.", 10 DB9 (in) "Data Input.", 11 DB8 (in) "Data Input.", 12 DB7 (in) "Data Input.", 13 DB6 (in) "Data Input.", 14 DB5 (in) "Data Input.", 15 DB4 (in) "Data Input.", 16 DB3 (in) "Data Input.", 17 DB2 (in) "Data Input.", 18 DB1 (in) "Data Input.", 19 DB0 (in) "Data Input. Bit DB0 (LSB).", 20 ~{LDAC} (in) "Chip Select Input. Active low.", 21 ~{CS} (in) "Asynchronous Load DAC Input. Active low.", 22 ~{WR} (in) "Write Input. Active low.", 23 VDD (power) "+12 V to +15 V Supply Input.", 24 VSS (power) "Bias pin for high temperature low leakage configuration. To implement low leakage system, the pin should be at a negative voltage. See Figure 6 and Figure 8 for recommended circuitry."

## AD7538KR
designator U?
Single 14-Bit LC2MOS Microprocessor-Compatible Digital-to-Analog Converter, 0 to +70 degC, RW-24, Tube; Generic Part Number: AD7538; Manufacturer: Analog Devices; PartNumber: AD7538KR; # DAC Outputs: 1; Max V+: 15.75V; Op Pwr Diss: 60mW; Resolution (Bits): 14; Settling Time: 1.5µs; Single Supply: No; DatasheetVersion: Rev.B; PackageVersion: 060706-A; PackageReference: RW-24; PackageDescription: 24-Lead Standard Small Outline Package [SOIC_W]; Supplier 1: Digi-Key; Supplier Part Number 1: AD7538KR-ND; Supplier 2: Mouser; Supplier Part Number 2: 584-AD7538KR; Packing: Tube; RoHS: N; Mounting Technology: Surface Mount; Code_JEDEC: MS-013-AD; ComponentLink1Description: Manufacturer URL; ComponentLink1URL: http://www.analog.com/en/index.html; ComponentLink2Description: Datasheet; ComponentLink2URL: http://www.analog.com/static/imported-files/data_sheets/AD7538.pdf; ComponentLink3Description: Package Specification; ComponentLink3URL: http://www.analog.com/static/imported-files/packages/33665150946139RW_24.pdf; ComponentLink4Description: Product URL; ComponentLink4URL: http://www.analog.com/en/digital-to-analog-converters/da-converters/ad7538/products/product.html
footprint RW-24_N (SOIC, 24-Leads, Body 15.4x7.5mm, Pitch 1.27mm, IPC Medium Density)
footprint RW-24_L (SOIC, 24-Leads, Body 15.4x7.5mm, Pitch 1.27mm, IPC High Density)
footprint RW-24_M (SOIC, 24-Leads, Body 15.4x7.5mm, Pitch 1.27mm, IPC Low Density)
pins: 1 VREF (in) "Voltage Reference.", 2 RFB (in) "Feedback Resistor. Used to close the loop around an external op amp.", 3 IOUT (out) "Current Output Terminal.", 4 AGND (power) "Analog Ground", 5 DGND (power) "Digital Ground.", 6 DB13 (in) "Data Input. Bit DB13 (MSB).", 7 DB12 (in) "Data Input.", 8 DB11 (in) "Data Input.", 9 DB10 (in) "Data Input.", 10 DB9 (in) "Data Input.", 11 DB8 (in) "Data Input.", 12 DB7 (in) "Data Input.", 13 DB6 (in) "Data Input.", 14 DB5 (in) "Data Input.", 15 DB4 (in) "Data Input.", 16 DB3 (in) "Data Input.", 17 DB2 (in) "Data Input.", 18 DB1 (in) "Data Input.", 19 DB0 (in) "Data Input. Bit DB0 (LSB).", 20 ~{LDAC} (in) "Chip Select Input. Active low.", 21 ~{CS} (in) "Asynchronous Load DAC Input. Active low.", 22 ~{WR} (in) "Write Input. Active low.", 23 VDD (power) "+12 V to +15 V Supply Input.", 24 VSS (power) "Bias pin for high temperature low leakage configuration. To implement low leakage system, the pin should be at a negative voltage. See Figure 6 and Figure 8 for recommended circuitry."

## AD7538KR-REEL
designator U?
Single 14-Bit LC2MOS Microprocessor-Compatible Digital-to-Analog Converter, 0 to +70 degC, RW-24, Reel; Generic Part Number: AD7538; Manufacturer: Analog Devices; PartNumber: AD7538KR-REEL; # DAC Outputs: 1; Max V+: 15.75V; Op Pwr Diss: 60mW; Resolution (Bits): 14; Settling Time: 1.5µs; Single Supply: No; DatasheetVersion: Rev.B; PackageVersion: 060706-A; PackageReference: RW-24; PackageDescription: 24-Lead Standard Small Outline Package [SOIC_W]; Supplier 1: Mouser; Supplier Part Number 1: N/A; Packing: Reel; RoHS: N; Mounting Technology: Surface Mount; Code_JEDEC: MS-013-AD; ComponentLink1Description: Manufacturer URL; ComponentLink1URL: http://www.analog.com/en/index.html; ComponentLink2Description: Datasheet; ComponentLink2URL: http://www.analog.com/static/imported-files/data_sheets/AD7538.pdf; ComponentLink3Description: Package Specification; ComponentLink3URL: http://www.analog.com/static/imported-files/packages/33665150946139RW_24.pdf; ComponentLink4Description: Product URL; ComponentLink4URL: http://www.analog.com/en/digital-to-analog-converters/da-converters/ad7538/products/product.html
footprint RW-24_N (SOIC, 24-Leads, Body 15.4x7.5mm, Pitch 1.27mm, IPC Medium Density)
footprint RW-24_L (SOIC, 24-Leads, Body 15.4x7.5mm, Pitch 1.27mm, IPC High Density)
footprint RW-24_M (SOIC, 24-Leads, Body 15.4x7.5mm, Pitch 1.27mm, IPC Low Density)
pins: 1 VREF (in) "Voltage Reference.", 2 RFB (in) "Feedback Resistor. Used to close the loop around an external op amp.", 3 IOUT (out) "Current Output Terminal.", 4 AGND (power) "Analog Ground", 5 DGND (power) "Digital Ground.", 6 DB13 (in) "Data Input. Bit DB13 (MSB).", 7 DB12 (in) "Data Input.", 8 DB11 (in) "Data Input.", 9 DB10 (in) "Data Input.", 10 DB9 (in) "Data Input.", 11 DB8 (in) "Data Input.", 12 DB7 (in) "Data Input.", 13 DB6 (in) "Data Input.", 14 DB5 (in) "Data Input.", 15 DB4 (in) "Data Input.", 16 DB3 (in) "Data Input.", 17 DB2 (in) "Data Input.", 18 DB1 (in) "Data Input.", 19 DB0 (in) "Data Input. Bit DB0 (LSB).", 20 ~{LDAC} (in) "Chip Select Input. Active low.", 21 ~{CS} (in) "Asynchronous Load DAC Input. Active low.", 22 ~{WR} (in) "Write Input. Active low.", 23 VDD (power) "+12 V to +15 V Supply Input.", 24 VSS (power) "Bias pin for high temperature low leakage configuration. To implement low leakage system, the pin should be at a negative voltage. See Figure 6 and Figure 8 for recommended circuitry."